# EAGLE library part FT232BL (library chipdesign2016)
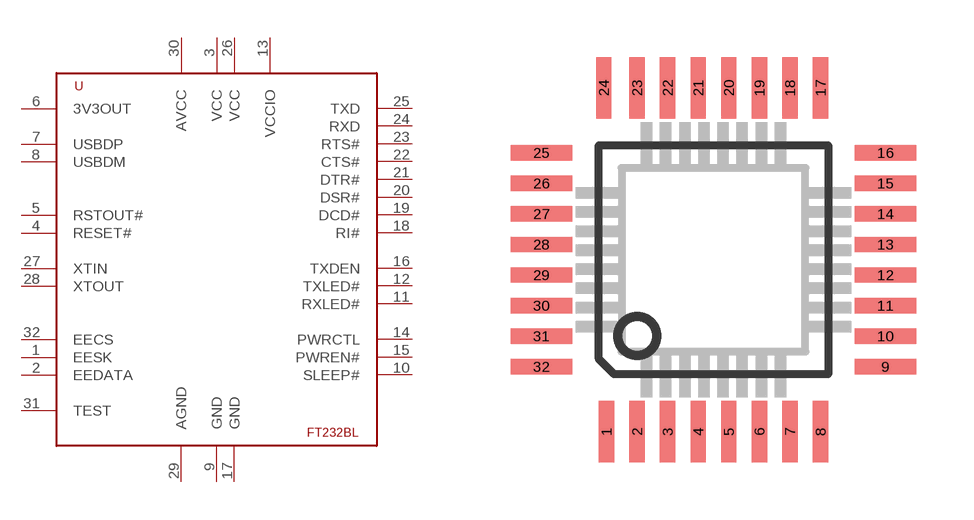
[diagram p1: symbol with the pads of LQFP-32; footprint LQFP-32]

Designator prefix -

## FT232BLFT232BL/TR  [LQFP-32]
1  EESK
2  EEDATA
3  VCC  pwr
4  RESET#
5  RSTOUT#
6  3V3OUT  pwr
7  USBDP
8  USBDM
9  GND  pwr
10  SLEEP#
11  RXLED#
12  TXLED#
13  VCCIO  pwr
14  PWRCTL
15  PWREN#
16  TXDEN
17  GND  pwr
18  RI#
19  DCD#
20  DSR#
21  DTR#
22  CTS#
23  RTS#
24  RXD
25  TXD
26  VCC  pwr
27  XTIN
28  XTOUT
29  AGND  pwr
30  AVCC  pwr
31  TEST
32  EECS

## Footprint LQFP-32 (pad centres in mm)
Quad FLat Pack RFMicro Device TQFP / LQFP-32 see IPC-SQR.LBR SQFP 5x5-32
smd 0.4 x 1.6: 1 -2.8,-4.5; 2 -2,-4.5; 3 -1.2,-4.5; 4 -0.4,-4.5; 5 0.4,-4.5; 6 1.2,-4.5; 7 2,-4.5; 8 2.8,-4.5; 17 2.8,4.5; 18 2,4.5; 19 1.2,4.5; 20 0.4,4.5; 21 -0.4,4.5; 22 -1.2,4.5; 23 -2,4.5; 24 -2.87,4.5
smd 1.6 x 0.4: 9 4.5,-2.8; 10 4.5,-2; 11 4.5,-1.2; 12 4.5,-0.4; 13 4.5,0.4; 14 4.5,1.2; 15 4.5,2; 16 4.5,2.8; 25 -4.5,2.8; 26 -4.5,2; 27 -4.5,1.2; 28 -4.5,0.4; 29 -4.5,-0.4; 30 -4.5,-1.2; 31 -4.5,-2; 32 -4.5,-2.8